# EAGLE library part 6D- (library Chips)
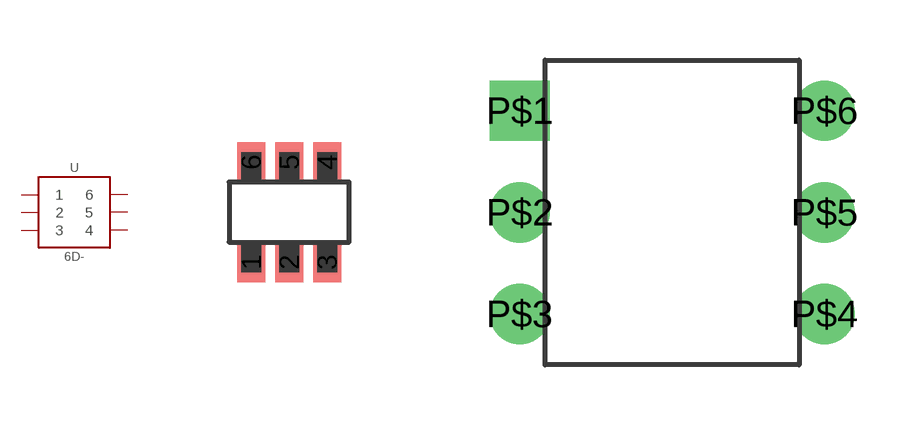
[diagram p0: symbol with the pads of SOT23-6; footprints SOT23-6, 6DIP]

Designator prefix U

## 6D-SOT23  [SOT23-6]
1  1
2  2
3  3
4  4
5  5
6  6

## 6D-DIP  [6DIP]
P$1  1
P$2  2
P$3  3
P$4  4
P$5  5
P$6  6

## 6D-SOT-363  [SOT-363]
Pads as for SOT23-6

## 6D-DFN  [DFN3X3]
Pads as for SOT23-6

## 6D-SO_9.2MM  [6SOP_9.2MM]
Pads as for SOT23-6

## 6D-SO_6.8MM  [6SOP_6.8MM]
Pads as for SOT23-6

## Footprint SOT23-6 (pad centres in mm)
smd 0.7 x 1: 1 -0.95,-1.25; 2 0,-1.25; 3 0.95,-1.25; 4 0.95,1.25; 5 0,1.25; 6 -0.95,1.25

## Footprint 6DIP (pad centres in mm)
drill 1 square: P$1 -3.81,2.54
drill 1: P$2 -3.81,0; P$3 -3.81,-2.54; P$4 3.81,-2.54; P$5 3.81,0; P$6 3.81,2.54

## Footprint SOT-363 (pad centres in mm)
smd 0.5 x 0.4: 1 -0.95,0.65; 2 -0.95,0; 3 -0.95,-0.65; 4 0.95,-0.65; 5 0.95,0; 6 0.95,0.65

## Footprint DFN3X3 (pad centres in mm)
smd 1 x 0.5: 1 -1.5,1; 2 -1.5,0; 3 -1.5,-1; 4 1.5,-1; 5 1.5,0; 6 1.5,1
smd 1.5 x 2.5: P 0,0

## Footprint 6SOP_9.2MM (pad centres in mm)
smd 1.905 x 0.635: 1 -5.715,1.27; 2 -5.715,0; 3 -5.715,-1.27; 4 5.715,-1.27; 5 5.715,0; 6 5.715,1.27

## Footprint 6SOP_6.8MM (pad centres in mm)
smd 1.905 x 0.635: 1 -4.445,1.27; 2 -4.445,0; 3 -4.445,-1.27; 4 4.445,-1.27; 5 4.445,0; 6 4.445,1.27